# EAGLE library part ROTARY_ENCODER-W/SWITCH (library EDS_Eagle_Library)
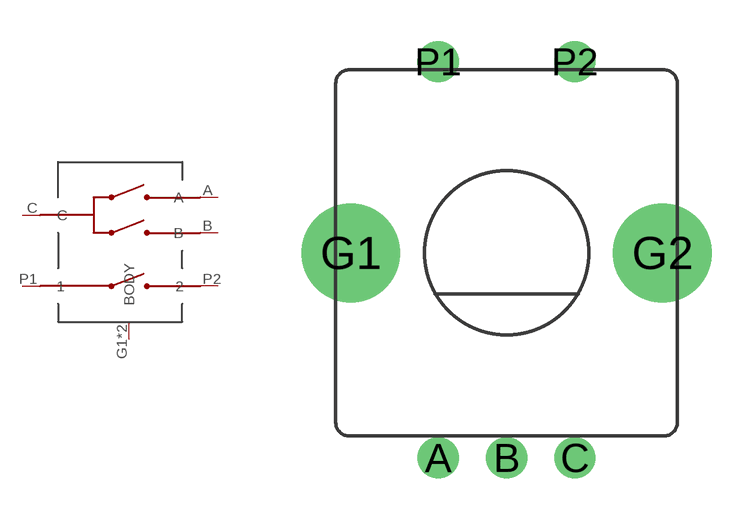
[diagram p4: symbol with the pads of PEC11R-4XXXX-SXXXX; footprint PEC11R-4XXXX-SXXXX]

Designator prefix -

## ROTARY_ENCODER-W/SWITCH  [PEC11R-4XXXX-SXXXX]
A  A
B  B
C  C
G1  BODY
G2  BODY
P1  1
P2  2

## Footprint PEC11R-4XXXX-SXXXX (pad centres in mm)
drill 1: A -2.5,-7.5; B 0,-7.5; C 2.5,-7.5; P1 -2.5,7; P2 2.5,7
drill 2.6: G1 -5.7,0; G2 5.7,0